# Altium schematic symbol library DIODE-ZENER.SchLib: 1 symbol
Pins are listed as number, name and electrical type; pins without a type are passive.

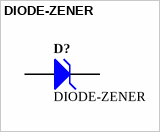
[diagram p0: symbol DIODE-ZENER]

## DIODE-ZENER
designator D?
pins: 1 K, 2 A